# EAGLE library part NRF52811 (library balto)
nRF52811
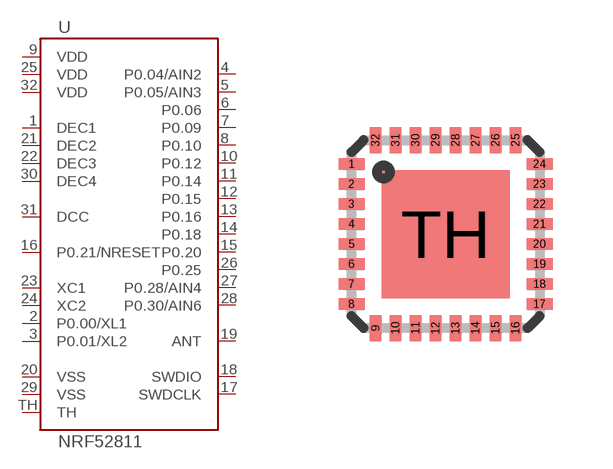
[diagram p57: symbol with the pads of MLF32-TH; footprint MLF32-TH]

Designator prefix U

## NRF52811-QCAA  [MLF32-TH]
1  DEC1
2  P0.00/XL1
3  P0.01/XL2
4  P0.04/AIN2
5  P0.05/AIN3
6  P0.06
7  P0.09
8  P0.10
9  VDD
10  P0.12
11  P0.14
12  P0.15
13  P0.16
14  P0.18
15  P0.20
16  P0.21/NRESET
17  SWDCLK
18  SWDIO
19  ANT
20  VSS
21  DEC2
22  DEC3
23  XC1
24  XC2
25  VDD
26  P0.25
27  P0.28/AIN4
28  P0.30/AIN6
29  VSS
30  DEC4
31  DCC
32  VDD
TH  TH

## Footprint MLF32-TH (pad centres in mm)
32M1-A Micro Lead Frame package (MLF)
smd 0.65 x 0.29: 1 -2.35,1.75; 2 -2.35,1.25; 3 -2.35,0.75; 4 -2.35,0.25; 5 -2.35,-0.25; 6 -2.35,-0.75; 7 -2.35,-1.25; 8 -2.35,-1.75; 17 2.35,-1.75; 18 2.35,-1.25; 19 2.35,-0.75; 20 2.35,-0.25; 21 2.35,0.25; 22 2.35,0.75; 23 2.35,1.25; 24 2.35,1.75
smd 0.29 x 0.65: 9 -1.75,-2.35; 10 -1.25,-2.35; 11 -0.75,-2.35; 12 -0.25,-2.35; 13 0.25,-2.35; 14 0.75,-2.35; 15 1.25,-2.35; 16 1.75,-2.35; 25 1.75,2.35; 26 1.25,2.35; 27 0.75,2.35; 28 0.25,2.35; 29 -0.25,2.35; 30 -0.75,2.35; 31 -1.25,2.35; 32 -1.75,2.35
smd 3.2 x 3.2: TH 0,0